# Altium footprint library SMD_Resistor_Series_PCB_Library_ARAF.PcbLib: 5 footprints
Each footprint in its own frame and in the unit in brackets; x right, y up, seen from the top. Pads: shape width x height; smd on the part's side, far side on the other; paste and mask are expansions set on the pad; w line width, h text height; cw(c..) or ccw(c..) is an arc to the next point about the centre after c.
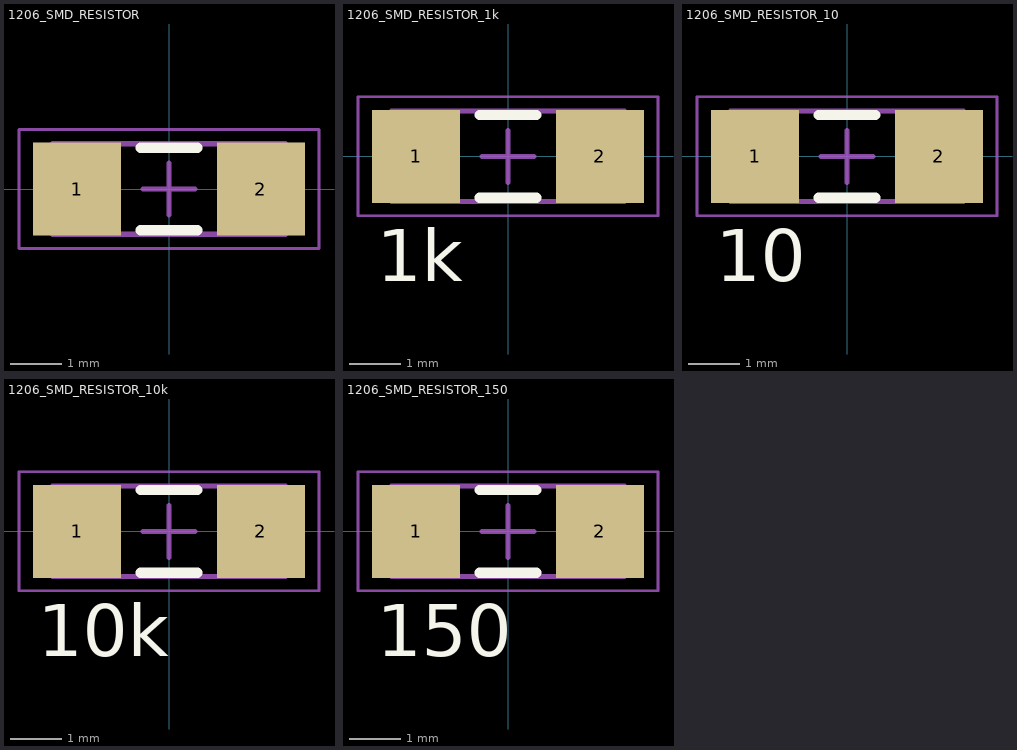
[diagram p0: the footprints below, top view; thin cyan lines are the x and y axes]

## 1206_SMD_RESISTOR [mm] "Chip Resistor, 2-Leads, Body 4.50x1.75mm, IPC Medium Density"
height 0.6
pads (2):
  rect 1.7x1.8 smd: 1(-1.775,0) 2(1.775,0)
Top Overlay:
  lines w0.2: -0.55,-0.8 0.55,-0.8 ; -0.55,0.8 0.55,0.8
Mechanical 13:
  lines w0.1: -2.25,-0.875 -2.25,0.875 2.25,0.875 2.25,-0.875 -2.25,-0.875
Mechanical 15:
  lines w0.05: -2.9,-1.15 -2.9,1.15 2.9,1.15 2.9,-1.15 -2.9,-1.15
  lines w0.1: -0.5,0 0.5,0 ; 0,-0.5 0,0.5
3D body "RESC4518X06N.step": height 0.6, standoff 0, extent -2.25,-0.875 2.25,0.875

## 1206_SMD_RESISTOR_1k [mm] "Chip Resistor, 2-Leads, Body 4.50x1.75mm, IPC Medium Density"
height 0.6
pads (2):
  rect 1.7x1.8 smd: 1(-1.775,0) 2(1.775,0)
Top Overlay:
  lines w0.2: -0.55,-0.8 0.55,-0.8 ; -0.55,0.8 0.55,0.8
  text "1k" at -2.54,-2.413 h1
Mechanical 13:
  lines w0.1: -2.25,-0.875 2.25,-0.875 2.25,0.875 -2.25,0.875 -2.25,-0.875
Mechanical 15:
  lines w0.05: -2.9,-1.15 2.9,-1.15 2.9,1.15 -2.9,1.15 -2.9,-1.15
  lines w0.1: -0.5,0 0.5,0 ; 0,-0.5 0,0.5
3D body "RESC4518X06N.step": height 0.6, standoff 0, extent -2.25,-0.875 2.25,0.875

## 1206_SMD_RESISTOR_10 [mm] "Chip Resistor, 2-Leads, Body 4.50x1.75mm, IPC Medium Density"
height 0.6
pads (2):
  rect 1.7x1.8 smd: 1(-1.775,0) 2(1.775,0)
Top Overlay:
  lines w0.2: -0.55,-0.8 0.55,-0.8 ; -0.55,0.8 0.55,0.8
  text "10" at -2.54,-2.413 h1
Mechanical 13:
  lines w0.1: -2.25,-0.875 2.25,-0.875 2.25,0.875 -2.25,0.875 -2.25,-0.875
Mechanical 15:
  lines w0.05: -2.9,-1.15 2.9,-1.15 2.9,1.15 -2.9,1.15 -2.9,-1.15
  lines w0.1: -0.5,0 0.5,0 ; 0,-0.5 0,0.5
3D body "RESC4518X06N.step": height 0.6, standoff 0, extent -2.25,-0.875 2.25,0.875

## 1206_SMD_RESISTOR_10k [mm] "Chip Resistor, 2-Leads, Body 4.50x1.75mm, IPC Medium Density"
height 0.6
pads (2):
  rect 1.7x1.8 smd: 1(-1.775,0) 2(1.775,0)
Top Overlay:
  lines w0.2: -0.55,-0.8 0.55,-0.8 ; -0.55,0.8 0.55,0.8
  text "10k" at -2.54,-2.413 h1
Mechanical 13:
  lines w0.1: -2.25,-0.875 2.25,-0.875 2.25,0.875 -2.25,0.875 -2.25,-0.875
Mechanical 15:
  lines w0.05: -2.9,-1.15 2.9,-1.15 2.9,1.15 -2.9,1.15 -2.9,-1.15
  lines w0.1: -0.5,0 0.5,0 ; 0,-0.5 0,0.5
3D body "RESC4518X06N.step": height 0.6, standoff 0, extent -2.25,-0.875 2.25,0.875

## 1206_SMD_RESISTOR_150 [mm] "Chip Resistor, 2-Leads, Body 4.50x1.75mm, IPC Medium Density"
height 0.6
pads (2):
  rect 1.7x1.8 smd: 1(-1.775,0) 2(1.775,0)
Top Overlay:
  lines w0.2: -0.55,-0.8 0.55,-0.8 ; -0.55,0.8 0.55,0.8
  text "150" at -2.54,-2.413 h1
Mechanical 13:
  lines w0.1: -2.25,-0.875 2.25,-0.875 2.25,0.875 -2.25,0.875 -2.25,-0.875
Mechanical 15:
  lines w0.05: -2.9,-1.15 2.9,-1.15 2.9,1.15 -2.9,1.15 -2.9,-1.15
  lines w0.1: -0.5,0 0.5,0 ; 0,-0.5 0,0.5
3D body "RESC4518X06N.step": height 0.6, standoff 0, extent -2.25,-0.875 2.25,0.875